# EAGLE library part JTAG-10 (library Hughes-Connectors)
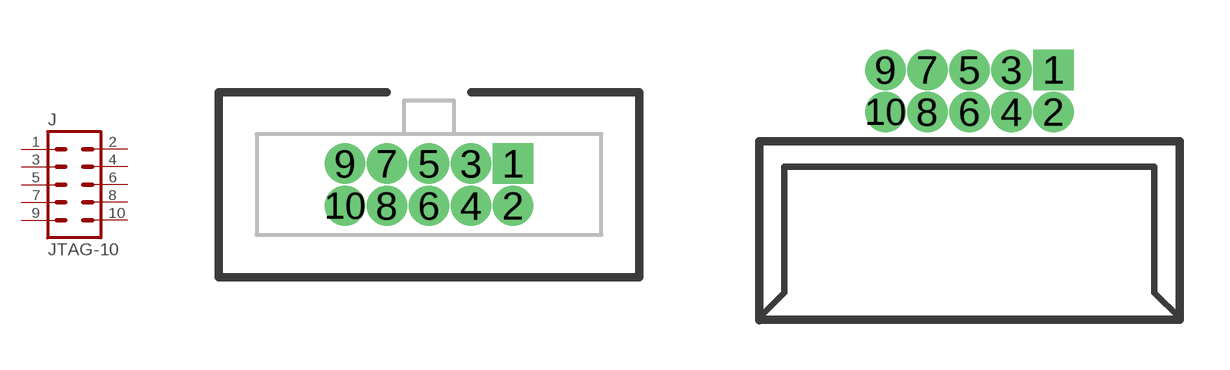
[diagram p0: symbol with the pads of JTAG-10; footprints JTAG-10, JTAG-10-RT]

Designator prefix J

## JTAG-10V  [JTAG-10]
1  1  pas
2  2  pas
3  3  pas
4  4  pas
5  5  pas
6  6  pas
7  7  pas
8  8  pas
9  9  pas
10  10  pas

## JTAG-10R  [JTAG-10-RT]
Pads as for JTAG-10

## JTAG-10SM  [JTAG-10_SM]
Pads as for JTAG-10

## Footprint JTAG-10 (pad centres in mm)
CNC Tech - JTAG 10 Position Manufacturer: CNC Tech Description: 10 Positions Header Connector 0.050" (1.27mm) Through Hole Gold Manufacturer Part Number: 3220-10-0100-00 Digi-Key Part <http://www.digikey.com/product-detail/en/3220-10-0100-00/1175-1627-ND/3883661>
drill 0.711 pad 1.067 square: 1 2.54,0.635
drill 0.711 pad 1.067: 2 2.54,-0.635; 3 1.27,0.635; 4 1.27,-0.635; 5 0,0.635; 6 0,-0.635; 7 -1.27,0.635; 8 -1.27,-0.635; 9 -2.54,0.635; 10 -2.54,-0.635

## Footprint JTAG-10-RT (pad centres in mm)
1175-1628-ND
drill 0.711 pad 1.067 square: 1 2.54,0.635
drill 0.711 pad 1.067: 2 2.54,-0.635; 3 1.27,0.635; 4 1.27,-0.635; 5 0,0.635; 6 0,-0.635; 7 -1.27,0.635; 8 -1.27,-0.635; 9 -2.54,0.635; 10 -2.54,-0.635

## Footprint JTAG-10_SM (pad centres in mm)
smd 0.76 x 2.4: 1 2.54,1.95; 2 2.54,-1.95; 3 1.27,1.95; 4 1.27,-1.95; 5 0,1.95; 6 0,-1.95; 7 -1.27,1.95; 8 -1.27,-1.95; 9 -2.54,1.95; 10 -2.54,-1.95